# Altium footprint library Main.PcbLib: 56 footprints (part 3 of 4)
Each footprint in its own frame and in the unit in brackets; x right, y up, seen from the top. Pads: shape width x height; smd on the part's side, far side on the other; paste and mask are expansions set on the pad; w line width, h text height; cw(c..) or ccw(c..) is an arc to the next point about the centre after c.
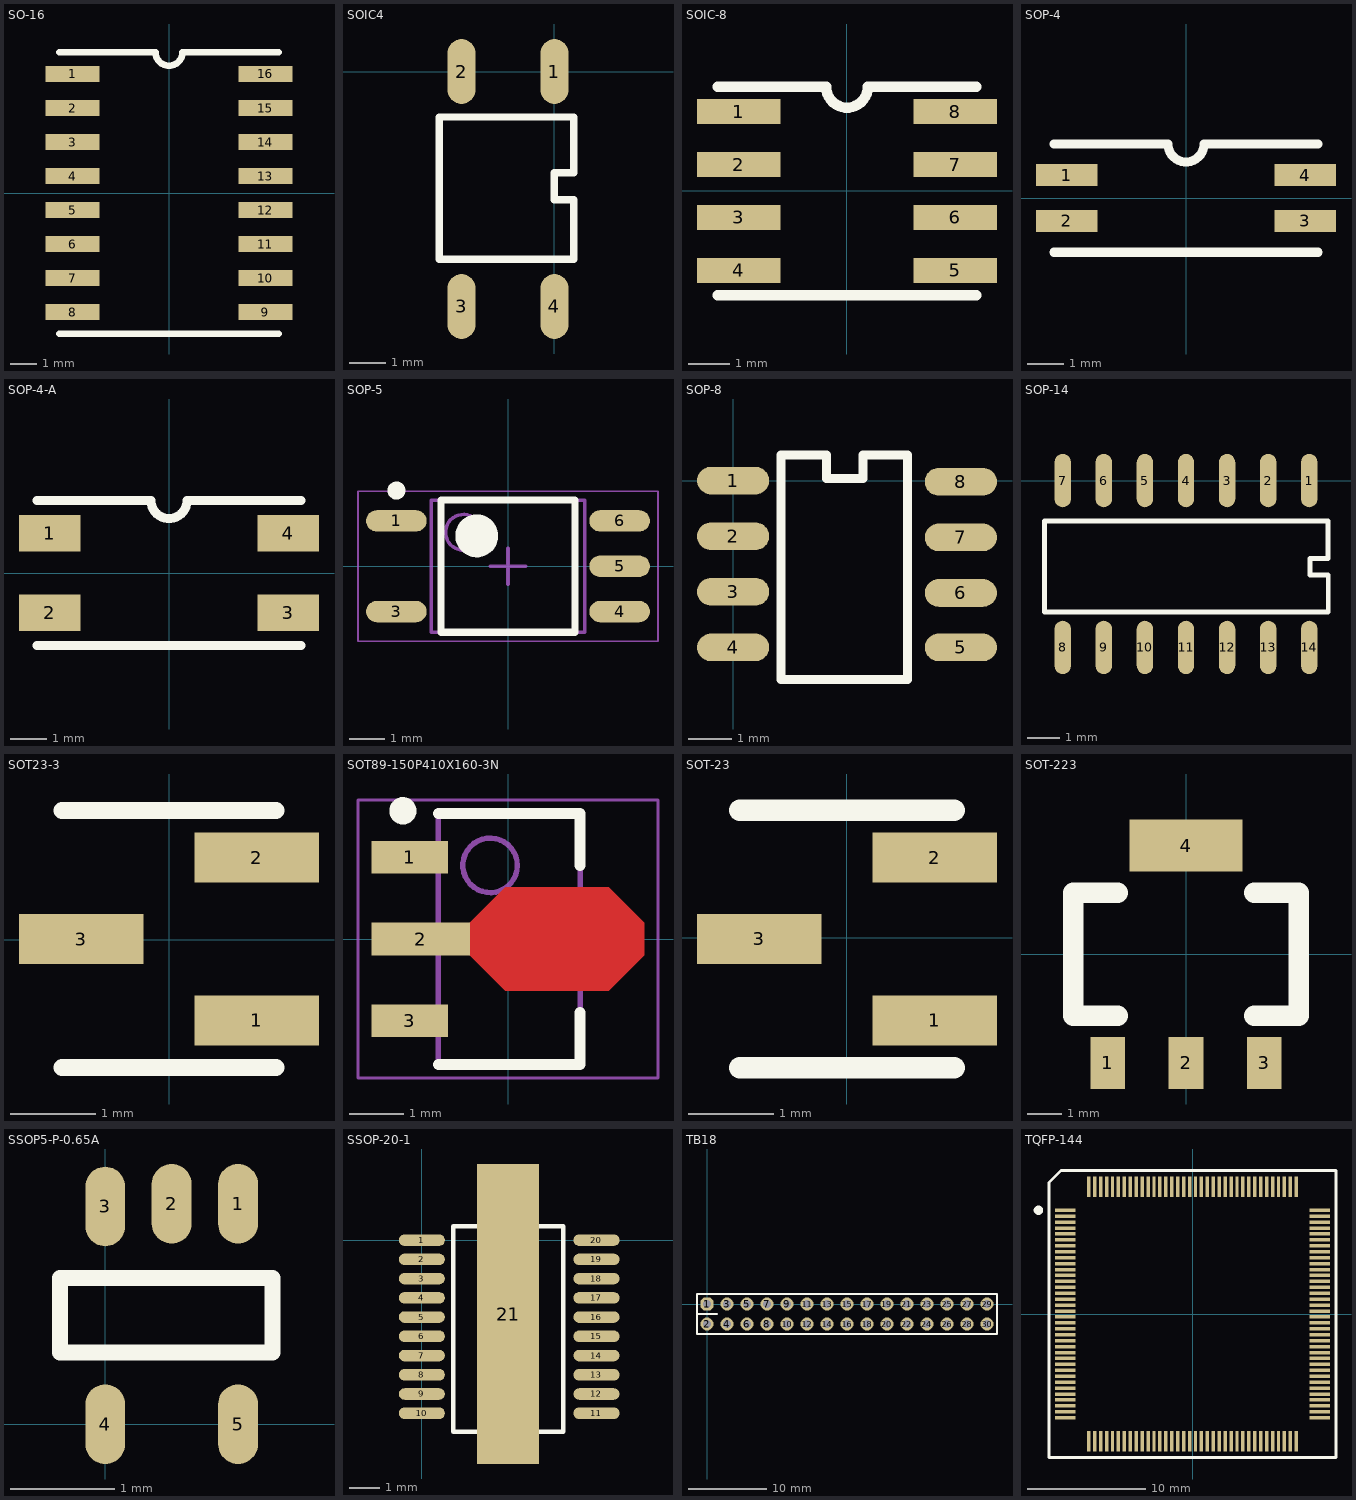
[diagram p2: the footprints below, top view; thin cyan lines are the x and y axes]

## SO-16 [mm]
height 1.1
pads (16):
  rect 2x0.6 smd: 1(-3.6,4.445) 2(-3.6,3.175) 3(-3.6,1.905) 4(-3.6,0.635) 5(-3.6,-0.635) 6(-3.6,-1.905) 7(-3.6,-3.175) 8(-3.6,-4.445) 9(3.6,-4.445) 10(3.6,-3.175) 11(3.6,-1.905) 12(3.6,-0.635) 13(3.6,0.635) 14(3.6,1.905) 15(3.6,3.175) 16(3.6,4.445)
Top Overlay:
  lines w0.25: -4.1,-5.25 4.1,-5.25 ; -4.1,5.25 -0.5,5.25 ccw(c0,5.25) 0.5,5.25 4.1,5.25

## SOIC4 [mil]
pads (4):
  oval 30x70 smd: 1(0,0) 2(-100,0) 3(-100,-253) 4(0,-253)
Top Overlay:
  lines w8: -124,-202 21,-202 21,-138 0,-138 0,-109 21,-109 21,-49 -124,-49 -124,-202

## SOIC-8 [mm]
height 1.1
pads (8):
  rect 2x0.6 smd: 1(-2.6,1.905) 2(-2.6,0.635) 3(-2.6,-0.635) 4(-2.6,-1.905) 5(2.6,-1.905) 6(2.6,-0.635) 7(2.6,0.635) 8(2.6,1.905)
Top Overlay:
  lines w0.25: -3.1,-2.5 3.1,-2.5 ; -3.1,2.5 -0.5,2.5 ; -0.5,2.5 ccw(c0,2.5) 0.5,2.5 ; 0.5,2.5 3.1,2.5

## SOP-4 [mm]
height 1.1
pads (4):
  rect 1.7x0.6 smd: 1(-3.3,0.635) 2(-3.3,-0.635) 3(3.3,-0.635) 4(3.3,0.635)
Top Overlay:
  lines w0.25: -3.65,-1.5 3.65,-1.5 ; -3.65,1.5 -0.5,1.5 ccw(c0,1.5) 0.5,1.5 3.65,1.5

## SOP-4-A [mm]
pads (4):
  rect 1.7x1 smd: 1(-3.3,1.1) 2(-3.3,-1.1) 3(3.3,-1.1) 4(3.3,1.1)
Top Overlay:
  lines w0.25: -3.65,-2.008 3.65,-2.008 ; -3.65,2.008 -0.5,2.008 ccw(c0,2.008) 0.5,2.008 3.65,2.008

## SOP-5 [mm]
height 2.5
pads (5):
  oval 1.7x0.6 smd: 1(-3.125,1.27) 3(-3.125,-1.27) 4(3.125,-1.27) 5(3.125,0) 6(3.125,1.27)
Top Overlay:
  circle w0.25: c-3.125,2.12 r0.125
  circle w0.6: c-0.875,0.85 r0.3
  lines w0.2: -1.875,-1.85 -1.875,1.85 1.875,1.85 1.875,-1.85 -1.875,-1.85
Mechanical 13:
  circle w0.1: c-1.25,0.95 r0.5
  lines w0.1: -2.15,-1.85 -2.15,1.85 2.15,1.85 2.15,-1.85 -2.15,-1.85
Mechanical 15:
  lines w0.05: -4.2,-2.1 -4.2,2.1 4.2,2.1 4.2,-2.1 -4.2,-2.1
  lines w0.1: -0.5,0 0.5,0 ; 0,-0.5 0,0.5
3D body: height 2.5, standoff 0.1, extent -2.15,-1.85 2.15,1.85

## SOP-8 [mil]
pads (8):
  oval 65x25 smd: 1(0,0) 2(0,-50) 3(0,-100) 4(0,-150) 5(205,-150) 6(205,-101) 7(205,-51) 8(205,-1)
Top Overlay:
  lines w8: 43,-179 43,23 84,23 84,2 117,2 117,23 157,23 157,-179 43,-179

## SOP-14 [mil]
pads (14):
  oval 20x65 smd: 1(500,0) 2(450,0) 3(400,0) 4(350,0) 5(300,0) 6(250,0) 7(200,0) 8(200,-203) 9(250,-203) 10(300,-203) 11(350,-203) 12(400,-203) 13(450,-203) 14(500,-203)
Top Overlay:
  lines w6: 178,-160 523.09,-160 523.09,-115 501,-115 501,-95 523,-95 523,-49 178,-49 178,-160

## SOT23-3 [mm]
height 1.1
pads (3):
  rect 1.45x0.58 smd: 1(1.019,-0.943) 2(1.019,0.957) 3(-1.031,0.007)
Top Overlay:
  lines w0.2: -1.256,-1.493 1.244,-1.493 ; -1.256,1.507 1.244,1.507

## SOT89-150P410X160-3N [mm] "SOT89, 3-Leads, Body 4.50x2.45mm, Pitch 1.50mm, Lead Span 4.1mm, IPC Medium Density"
height 1.6
pads (3):
  rect 1.4x0.6 smd: 1(-1.8,1.5) 3(-1.8,-1.5)
  rect 1.8x0.6 smd: 2(-1.6,0)
Top Layer:
  region: -0.7,0.3 -0.05,0.95 1.85,0.95 2.5,0.3 2.5,-0.3 1.85,-0.95 -0.05,-0.95 -0.7,-0.3
Top Overlay:
  circle w0.25: c-1.927,2.35 r0.125
  lines w0.2: -1.278,-2.3 1.322,-2.3 1.322,-1.35 ; -1.278,2.3 1.322,2.3 1.322,1.35
Mechanical 13:
  circle w0.1: c-0.327,1.35 r0.5
  lines w0.1: -1.278,-2.3 1.322,-2.3 1.322,2.3 -1.278,2.3 -1.278,-2.3
Mechanical 15:
  lines w0.05: -2.75,-2.55 2.75,-2.55 2.75,2.55 -2.75,2.55 -2.75,-2.55
  lines w0.1: -0.477,0 0.523,0 ; 0.022,-0.5 0.022,0.5
3D body: height 1.6, standoff 0, extent -1.278,-2.3 1.322,2.3

## SOT-23 [mm]
height 1.1
pads (3):
  rect 1.45x0.58 smd: 1(1.03,-0.962) 2(1.03,0.938) 3(-1.02,-0.012)
Top Overlay:
  lines w0.25: -1.245,-1.512 1.255,-1.512 ; -1.245,1.488 1.255,1.488

## SOT-223 [mil]
height 43.31
pads (4):
  rect 40x60 smd: 1(-90,-125) 2(0,-125) 3(90,-125)
  rect 130x60 smd: 4(0,125)
Top Overlay:
  lines w23.62: -78.74,-70.87 -129.92,-70.87 -129.92,70.87 -78.74,70.87 ; 78.74,-70.87 129.92,-70.87 129.92,70.87 78.74,70.87

## SSOP5-P-0.65A [mil]
pads (5):
  oval 15x30 smd: 1(50,83) 2(25,83) 3(0,82) 4(0,0) 5(50,0)
Top Overlay:
  lines w6: -17,27 63,27 63,55 -17,55 -17,27

## SSOP-20-1 [mil]
pads (21):
  oval 60x15 smd: 1(0,0) 2(0,-25) 3(0,-50) 4(0,-75) 5(0,-100) 6(0,-125) 7(0,-150) 8(0,-175) 9(0,-200) 10(0,-225) 11(227,-225) 12(227,-200) 13(227,-175) 14(227,-150) 15(227,-125) 16(227,-100) 17(227,-75) 18(227,-50) 19(227,-25) 20(227,0)
  rect 80x390 smd: 21(112,-96)
Top Overlay:
  lines w6: 41,-249 41,18 184,18 184,-249 41,-249

## TB18 [mil]
height 43.31
pads (30):
  oct 65x65 hole 40: 1(0,0)
  round 65 hole 40: 2(0,-100) 3(100,0) 4(100,-100) 5(200,0) 6(200,-100) 7(300,0) 8(300,-100) 9(400,0) 10(400,-100) 11(500,0) 12(500,-100) 13(600,0) 14(600,-100) 15(700,0) 16(700,-100) 17(800,0) 18(800,-100) 19(900,0) 20(900,-100) 21(1000,0) 22(1000,-100) 23(1100,0) 24(1100,-100) 25(1200,0) 26(1200,-100) 27(1300,0) 28(1300,-100) 29(1400,0) 30(1400,-100)
Top Overlay:
  lines w10: -50,-50 50,-50 ; -50,-150 -50,50 1450,50 1450,-150 -50,-150

## TQFP-144 [mm]
height 1.1
pads (144):
  rect 1.75x0.29 smd: 1(-10.725,8.75) 2(-10.725,8.25) 3(-10.725,7.75) 4(-10.725,7.25) 5(-10.725,6.75) 6(-10.725,6.25) 7(-10.725,5.75) 8(-10.725,5.25) 9(-10.725,4.75) 10(-10.725,4.25) 11(-10.725,3.75) 12(-10.725,3.25) 13(-10.725,2.75) 14(-10.725,2.25) 15(-10.725,1.75) 16(-10.725,1.25) 17(-10.725,0.75) 18(-10.725,0.25) 19(-10.725,-0.25) 20(-10.725,-0.75) 21(-10.725,-1.25) 22(-10.725,-1.75) 23(-10.725,-2.25) 24(-10.725,-2.75) 25(-10.725,-3.25) 26(-10.725,-3.75) 27(-10.725,-4.25) 28(-10.725,-4.75) 29(-10.725,-5.25) 30(-10.725,-5.75) 31(-10.725,-6.25) 32(-10.725,-6.75) 33(-10.725,-7.25) 34(-10.725,-7.75) 35(-10.725,-8.25) 36(-10.725,-8.75) 73(10.725,-8.75) 74(10.725,-8.25) 75(10.725,-7.75) 76(10.725,-7.25) 77(10.725,-6.75) 78(10.725,-6.25) 79(10.725,-5.75) 80(10.725,-5.25) 81(10.725,-4.75) 82(10.725,-4.25) 83(10.725,-3.75) 84(10.725,-3.25) 85(10.725,-2.75) 86(10.725,-2.25) 87(10.725,-1.75) 88(10.725,-1.25) 89(10.725,-0.75) 90(10.725,-0.25) 91(10.725,0.25) 92(10.725,0.75) 93(10.725,1.25) 94(10.725,1.75) 95(10.725,2.25) 96(10.725,2.75) 97(10.725,3.25) 98(10.725,3.75) 99(10.725,4.25) 100(10.725,4.75) 101(10.725,5.25) 102(10.725,5.75) 103(10.725,6.25) 104(10.725,6.75) 105(10.725,7.25) 106(10.725,7.75) 107(10.725,8.25) 108(10.725,8.75)
  rect 0.29x1.75 smd: 37(-8.75,-10.725) 38(-8.25,-10.725) 39(-7.75,-10.725) 40(-7.25,-10.725) 41(-6.75,-10.725) 42(-6.25,-10.725) 43(-5.75,-10.725) 44(-5.25,-10.725) 45(-4.75,-10.725) 46(-4.25,-10.725) 47(-3.75,-10.725) 48(-3.25,-10.725) 49(-2.75,-10.725) 50(-2.25,-10.725) 51(-1.75,-10.725) 52(-1.25,-10.725) 53(-0.75,-10.725) 54(-0.25,-10.725) 55(0.25,-10.725) 56(0.75,-10.725) 57(1.25,-10.725) 58(1.75,-10.725) 59(2.25,-10.725) 60(2.75,-10.725) 61(3.25,-10.725) 62(3.75,-10.725) 63(4.25,-10.725) 64(4.75,-10.725) 65(5.25,-10.725) 66(5.75,-10.725) 67(6.25,-10.725) 68(6.75,-10.725) 69(7.25,-10.725) 70(7.75,-10.725) 71(8.25,-10.725) 72(8.75,-10.725) 109(8.75,10.725) 110(8.25,10.725) 111(7.75,10.725) 112(7.25,10.725) 113(6.75,10.725) 114(6.25,10.725) 115(5.75,10.725) 116(5.25,10.725) 117(4.75,10.725) 118(4.25,10.725) 119(3.75,10.725) 120(3.25,10.725) 121(2.75,10.725) 122(2.25,10.725) 123(1.75,10.725) 124(1.25,10.725) 125(0.75,10.725) 126(0.25,10.725) 127(-0.25,10.725) 128(-0.75,10.725) 129(-1.25,10.725) 130(-1.75,10.725) 131(-2.25,10.725) 132(-2.75,10.725) 133(-3.25,10.725) 134(-3.75,10.725) 135(-4.25,10.725) 136(-4.75,10.725) 137(-5.25,10.725) 138(-5.75,10.725) 139(-6.25,10.725) 140(-6.75,10.725) 141(-7.25,10.725) 142(-7.75,10.725) 143(-8.25,10.725) 144(-8.75,10.725)
Top Overlay:
  circle w0.4: c-13,8.75 r0.2
  lines w0.25: -12.1,-12.1 12.1,-12.1 12.1,12.1 -11.1,12.1 -12.1,11.1 -12.1,-12.1